# EAGLE library part W25Q128JV (library SinclairScientific)
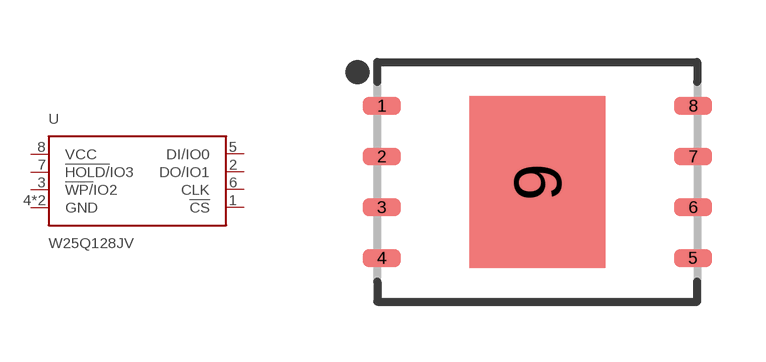
[diagram p5: symbol with the pads of SON127P800X600X80-9N; footprint SON127P800X600X80-9N]

Designator prefix -

## W25Q128JVSO (MFG: Winbond Electronics; MPN: W25Q128JVPIM; PN-DK: W25Q128JVPIMCT-ND)  [SON127P800X600X80-9N]
1  !CS
2  DO/IO1
3  !WP/!IO2
4  GND
5  DI/IO0
6  CLK
7  !HOLD/!IO3
8  VCC
9  GND

## Footprint SON127P800X600X80-9N (pad centres in mm)
smd 0.94 x 0.44: 1 -3.895,1.905; 2 -3.895,0.635; 3 -3.895,-0.635; 4 -3.895,-1.905; 5 3.895,-1.905; 6 3.895,-0.635; 7 3.895,0.635; 8 3.895,1.905
smd 3.4 x 4.3: 9 0,0